# EAGLE library part DS3232 (library Maxim)
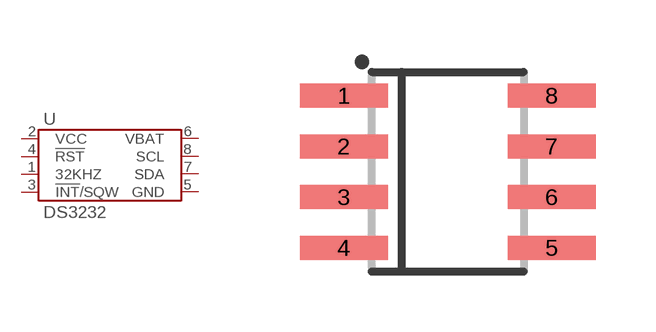
[diagram p7: symbol with the pads of SOIC-8; footprint SOIC-8]

Designator prefix U

## DS3232MZ+  [SOIC-8]
1  32KHZ
2  VCC
3  !INT!/SQW
4  !RST
5  GND
6  VBAT
7  SDA
8  SCL

## Footprint SOIC-8 (pad centres in mm)
smd 2.2 x 0.6: 1 -2.6,1.905; 2 -2.6,0.635; 3 -2.6,-0.635; 4 -2.6,-1.905; 5 2.6,-1.905; 6 2.6,-0.635; 7 2.6,0.635; 8 2.6,1.905